# Altium schematic symbol library 5576.SchLib: 2 symbols
Pins are listed as number, name and electrical type; pins without a type are passive.

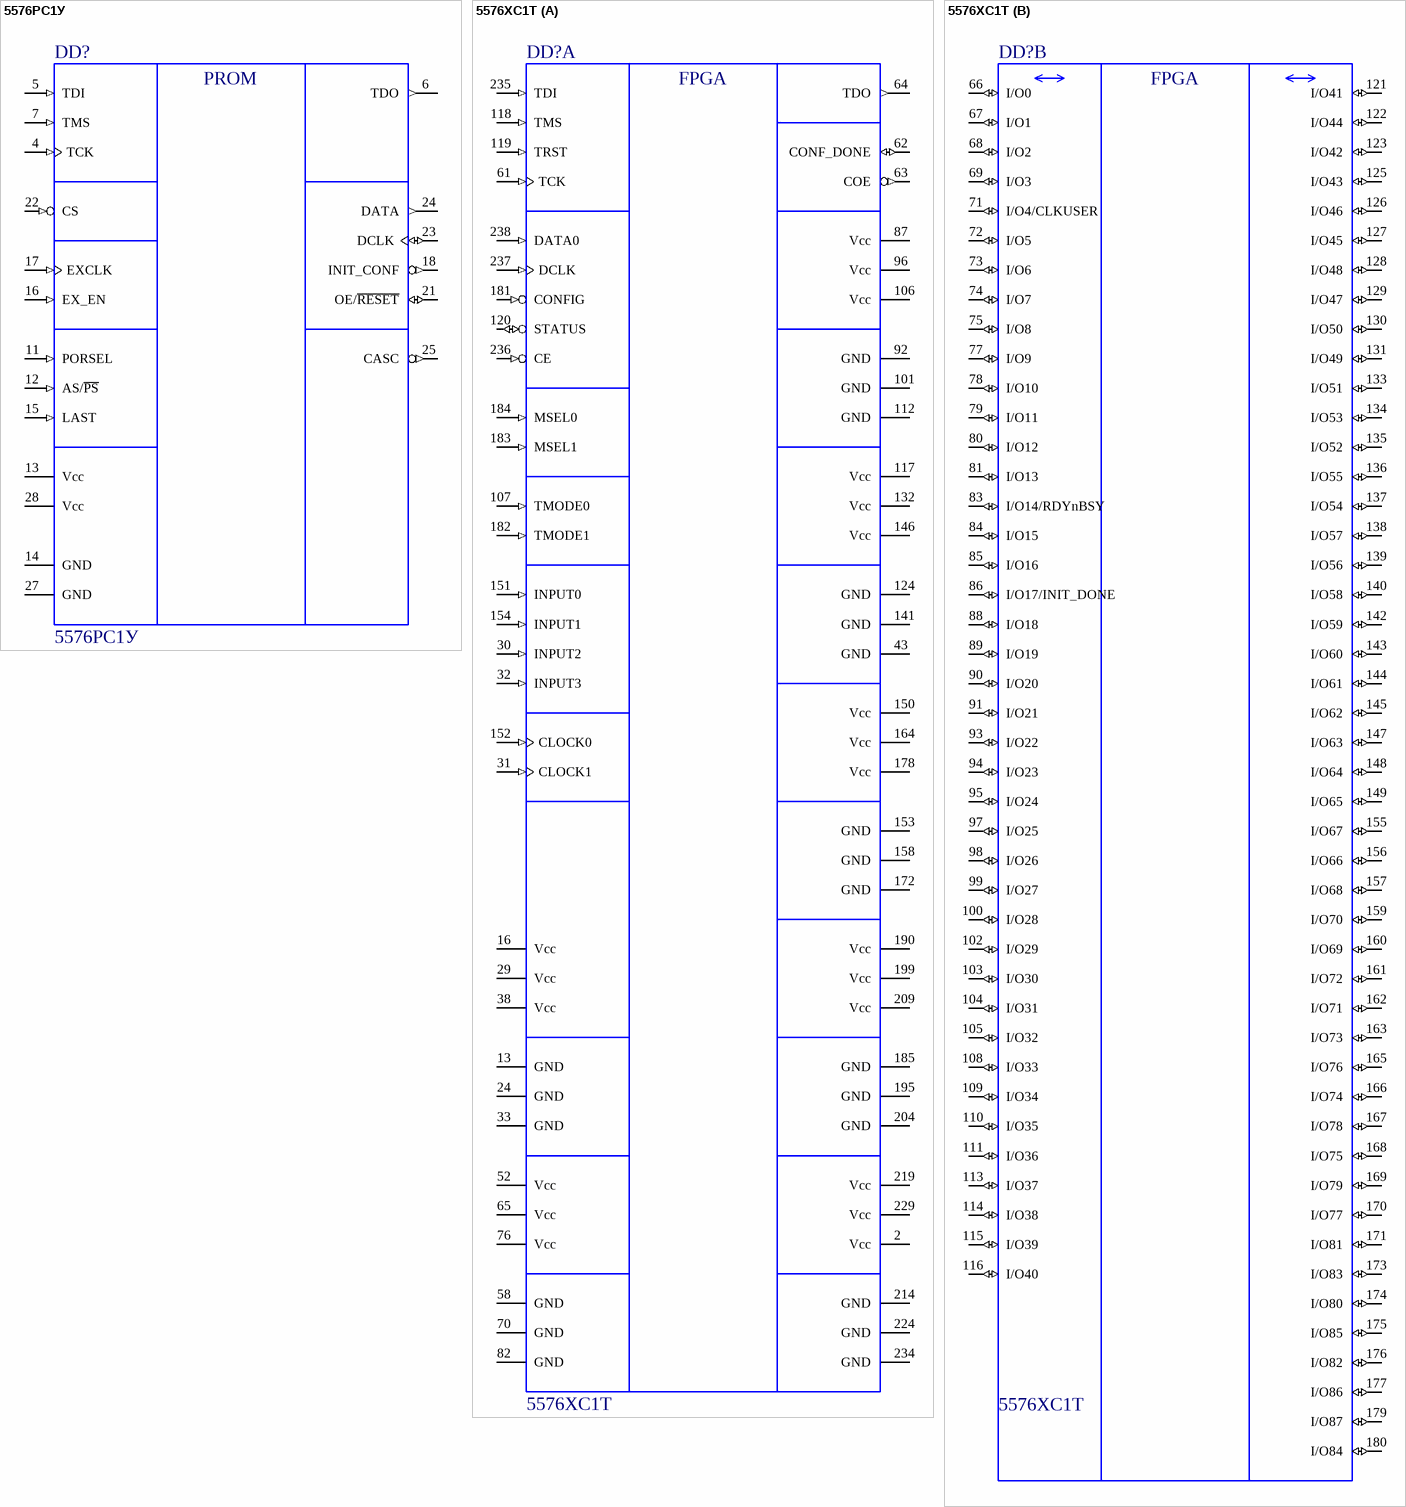
[diagram p0: symbols 5576РС1У to 5576ХС1Т]

## 5576РС1У
designator DD?
Конфигурационное ППЗУ 4Mb 5576РС1У; ValueSCH: 5576РС1У
pins: 1 NC hidden, 2 NC hidden, 3 NC hidden, 4 TCK (in), 5 TDI (in), 6 TDO (out), 7 TMS (in), 8 NC hidden, 9 NC hidden, 10 NC hidden, 11 PORSEL (in), 12 AS/~{PS} (in) "PORSEL", 13 Vcc (power), 14 GND (power), 15 LAST (in), 16 EX_EN (in) "External CLK enable", 17 EXCLK (in) "External CLK", 18 INIT_CONF (out), 19 NC hidden, 20 NC hidden, 21 OE/~{RESET} (io) "Output Enable", 22 CS (in) "Chip select", 23 DCLK (io) "Data clock", 24 DATA (out) "Data output", 25 CASC (out) "Cascade output", 26 NC hidden, 27 GND (power), 28 Vcc (power)
text: PROM

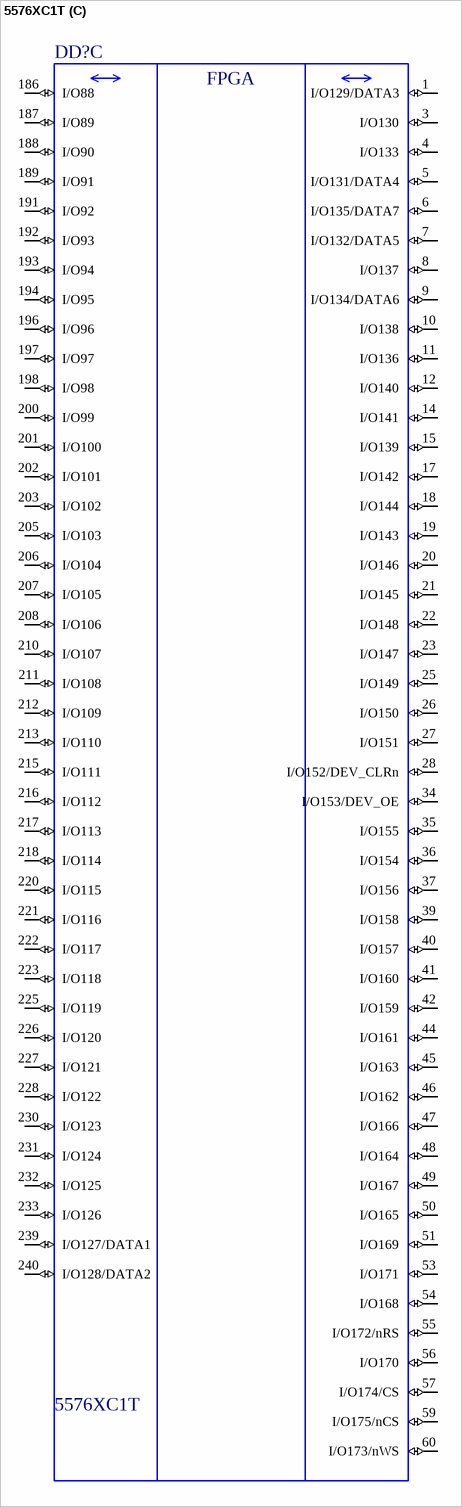
[diagram p1: symbol 5576ХС1Т]

## 5576ХС1Т
designator DD?
ПЛИС FPGA 50К эквивалентных вентелей; ValueSCH: 5576ХС1Т
part A pins: 2 Vcc (power), 13 GND (power), 16 Vcc (power), 24 GND (power), 29 Vcc (power), 30 INPUT2 (in) "выделенный вход2", 31 CLOCK1 (in) "Глобальный тактовый вход 1", 32 INPUT3 (in) "выделенный вход3", 33 GND (power), 38 Vcc (power), 43 GND (power), 52 Vcc (power), 58 GND (power), 61 TCK (in), 62 CONF_DONE (io) "Окончание конфигурирования", 63 COE (out) "Разрешение конфигурирования слудующей в цепочке схеме", 64 TDO (out), 65 Vcc (power), 70 GND (power), 76 Vcc (power), 82 GND (power), 87 Vcc (power), 92 GND (power), 96 Vcc (power), 101 GND (power), 106 Vcc (power), 107 TMODE0 (in) "Управление тестовым режимом", 112 GND (power), 117 Vcc (power), 118 TMS (in), 119 TRST (in), 120 STATUS (io) "Готовность конфигурировани. или ошибка конфигурирования", 124 GND (power), 132 Vcc (power), 141 GND (power), 146 Vcc (power), 150 Vcc (power), 151 INPUT0 (in) "выделенный вход0", 152 CLOCK0 (in) "Глобальный тактовый вход 0", 153 GND (power), 154 INPUT1 (in) "выделенный вход1", 158 GND (power), 164 Vcc (power), 172 GND (power), 178 Vcc (power), 181 CONFIG (in) "Сброс конфигурации", 182 TMODE1 (in) "Управление тестовым режимом", 183 MSEL1 (in) "Выбор типа конфигурирования в режиме загрузки", 184 MSEL0 (in) "Выбор типа конфигурирования в режиме загрузки", 185 GND (power), 190 Vcc (power), 195 GND (power), 199 Vcc (power), 204 GND (power), 209 Vcc (power), 214 GND (power), 219 Vcc (power), 224 GND (power), 229 Vcc (power), 234 GND (power), 235 TDI (in), 236 CE (in) "Разрешение конфигурирования в режиме загрузки", 237 DCLK (in) "Тактовый вход загрузки", 238 DATA0 (in) "Вход данных загрузки"
part B pins: 66 I/O0 (io) "User I/O", 67 I/O1 (io) "User I/O", 68 I/O2 (io) "User I/O", 69 I/O3 (io) "User I/O", 71 I/O4/CLKUSER (io) "User I/O", 72 I/O5 (io) "User I/O", 73 I/O6 (io) "User I/O", 74 I/O7 (io) "User I/O", 75 I/O8 (io) "User I/O", 77 I/O9 (io) "User I/O", 78 I/O10 (io) "User I/O", 79 I/O11 (io) "User I/O", 80 I/O12 (io) "User I/O", 81 I/O13 (io) "User I/O", 83 I/O14/RDYnBSY (io) "User I/O", 84 I/O15 (io) "User I/O", 85 I/O16 (io) "User I/O", 86 I/O17/INIT_DONE (io) "User I/O", 88 I/O18 (io) "User I/O", 89 I/O19 (io) "User I/O", 90 I/O20 (io) "User I/O", 91 I/O21 (io) "User I/O", 93 I/O22 (io) "User I/O", 94 I/O23 (io) "User I/O", 95 I/O24 (io) "User I/O", 97 I/O25 (io) "User I/O", 98 I/O26 (io) "User I/O", 99 I/O27 (io) "User I/O", 100 I/O28 (io) "User I/O", 102 I/O29 (io) "User I/O", 103 I/O30 (io) "User I/O", 104 I/O31 (io) "User I/O", 105 I/O32 (io) "User I/O", 108 I/O33 (io) "User I/O", 109 I/O34 (io) "User I/O", 110 I/O35 (io) "User I/O", 111 I/O36 (io) "User I/O", 113 I/O37 (io) "User I/O", 114 I/O38 (io) "User I/O", 115 I/O39 (io) "User I/O", 116 I/O40 (io) "User I/O", 121 I/O41 (io) "User I/O", 122 I/O44 (io) "User I/O", 123 I/O42 (io) "User I/O", 125 I/O43 (io) "User I/O", 126 I/O46 (io) "User I/O", 127 I/O45 (io) "User I/O", 128 I/O48 (io) "User I/O", 129 I/O47 (io) "User I/O", 130 I/O50 (io) "User I/O", 131 I/O49 (io) "User I/O", 133 I/O51 (io) "User I/O", 134 I/O53 (io) "User I/O", 135 I/O52 (io) "User I/O", 136 I/O55 (io) "User I/O", 137 I/O54 (io) "User I/O", 138 I/O57 (io) "User I/O", 139 I/O56 (io) "User I/O", 140 I/O58 (io) "User I/O", 142 I/O59 (io) "User I/O", 143 I/O60 (io) "User I/O", 144 I/O61 (io) "User I/O", 145 I/O62 (io) "User I/O", 147 I/O63 (io) "User I/O", 148 I/O64 (io) "User I/O", 149 I/O65 (io) "User I/O", 155 I/O67 (io) "User I/O", 156 I/O66 (io) "User I/O", 157 I/O68 (io) "User I/O", 159 I/O70 (io) "User I/O", 160 I/O69 (io) "User I/O", 161 I/O72 (io) "User I/O", 162 I/O71 (io) "User I/O", 163 I/O73 (io) "User I/O", 165 I/O76 (io) "User I/O", 166 I/O74 (io) "User I/O", 167 I/O78 (io) "User I/O", 168 I/O75 (io) "User I/O", 169 I/O79 (io) "User I/O", 170 I/O77 (io) "User I/O", 171 I/O81 (io) "User I/O", 173 I/O83 (io) "User I/O", 174 I/O80 (io) "User I/O", 175 I/O85 (io) "User I/O", 176 I/O82 (io) "User I/O", 177 I/O86 (io) "User I/O", 179 I/O87 (io) "User I/O", 180 I/O84 (io) "User I/O"
part C pins: 1 I/O129/DATA3 (io) "User I/O", 3 I/O130 (io) "User I/O", 4 I/O133 (io) "User I/O", 5 I/O131/DATA4 (io) "User I/O", 6 I/O135/DATA7 (io) "User I/O", 7 I/O132/DATA5 (io) "User I/O", 8 I/O137 (io) "User I/O", 9 I/O134/DATA6 (io) "User I/O", 10 I/O138 (io) "User I/O", 11 I/O136 (io) "User I/O", 12 I/O140 (io) "User I/O", 14 I/O141 (io) "User I/O", 15 I/O139 (io) "User I/O", 17 I/O142 (io) "User I/O", 18 I/O144 (io) "User I/O", 19 I/O143 (io) "User I/O", 20 I/O146 (io) "User I/O", 21 I/O145 (io) "User I/O", 22 I/O148 (io) "User I/O", 23 I/O147 (io) "User I/O", 25 I/O149 (io) "User I/O", 26 I/O150 (io) "User I/O", 27 I/O151 (io) "User I/O", 28 I/O152/DEV_CLRn (io) "User I/O", 34 I/O153/DEV_OE (io) "User I/O", 35 I/O155 (io) "User I/O", 36 I/O154 (io) "User I/O", 37 I/O156 (io) "User I/O", 39 I/O158 (io) "User I/O", 40 I/O157 (io) "User I/O", 41 I/O160 (io) "User I/O", 42 I/O159 (io) "User I/O", 44 I/O161 (io) "User I/O", 45 I/O163 (io) "User I/O", 46 I/O162 (io) "User I/O", 47 I/O166 (io) "User I/O", 48 I/O164 (io) "User I/O", 49 I/O167 (io) "User I/O", 50 I/O165 (io) "User I/O", 51 I/O169 (io) "User I/O", 53 I/O171 (io) "User I/O", 54 I/O168 (io) "User I/O", 55 I/O172/nRS (io) "User I/O", 56 I/O170 (io) "User I/O", 57 I/O174/CS (io) "User I/O", 59 I/O175/nCS (io) "User I/O", 60 I/O173/nWS (io) "User I/O", 186 I/O88 (io) "User I/O", 187 I/O89 (io) "User I/O", 188 I/O90 (io) "User I/O", 189 I/O91 (io) "User I/O", 191 I/O92 (io) "User I/O", 192 I/O93 (io) "User I/O", 193 I/O94 (io) "User I/O", 194 I/O95 (io) "User I/O", 196 I/O96 (io) "User I/O", 197 I/O97 (io) "User I/O", 198 I/O98 (io) "User I/O", 200 I/O99 (io) "User I/O", 201 I/O100 (io) "User I/O", 202 I/O101 (io) "User I/O", 203 I/O102 (io) "User I/O", 205 I/O103 (io) "User I/O", 206 I/O104 (io) "User I/O", 207 I/O105 (io) "User I/O", 208 I/O106 (io) "User I/O", 210 I/O107 (io) "User I/O", 211 I/O108 (io) "User I/O", 212 I/O109 (io) "User I/O", 213 I/O110 (io) "User I/O", 215 I/O111 (io) "User I/O", 216 I/O112 (io) "User I/O", 217 I/O113 (io) "User I/O", 218 I/O114 (io) "User I/O", 220 I/O115 (io) "User I/O", 221 I/O116 (io) "User I/O", 222 I/O117 (io) "User I/O", 223 I/O118 (io) "User I/O", 225 I/O119 (io) "User I/O", 226 I/O120 (io) "User I/O", 227 I/O121 (io) "User I/O", 228 I/O122 (io) "User I/O", 230 I/O123 (io) "User I/O", 231 I/O124 (io) "User I/O", 232 I/O125 (io) "User I/O", 233 I/O126 (io) "User I/O", 239 I/O127/DATA1 (io) "User I/O", 240 I/O128/DATA2 (io) "User I/O"
part A text: FPGA
part B text: FPGA
part C text: FPGA